# Altium schematic symbol library Epic_Library.SchLib: 1 symbol
Pins are listed as number, name and electrical type; pins without a type are passive.

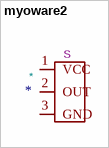
[diagram p0: symbol myoware2]

## myoware2
designator *  Reference: S
pins: 1 VCC, 2 OUT, 3 GND